# EAGLE library part MC34GD3000EP (library MC34GD3000EP-None-Symbol-Eagle-1)
3-Phase Brushless DC Motor Controller 6V to 58V 56-Pin QFN EP Brick
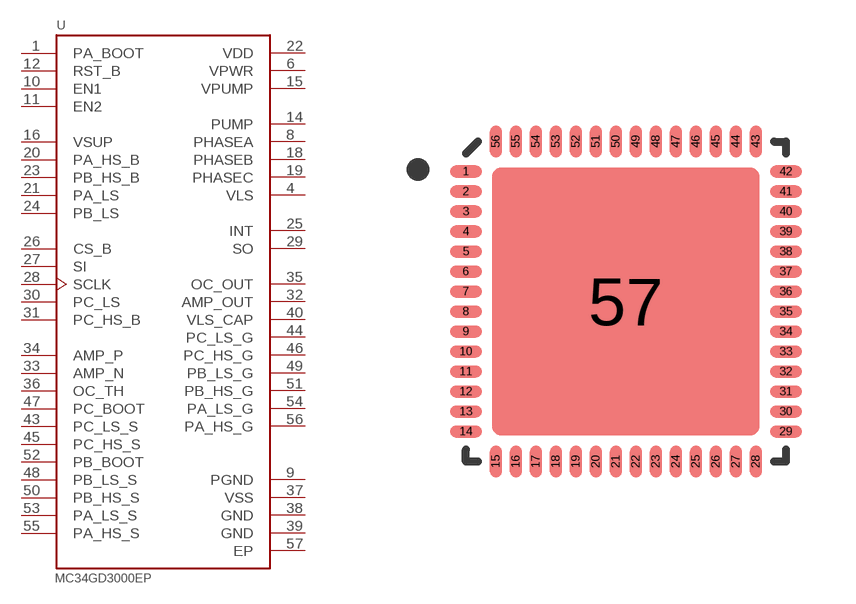
[diagram p0: symbol with the pads of QFN50P800X800X100-57N; footprint QFN50P800X800X100-57N]

Designator prefix U

## MC34GD3000EP (MANUFACTURER: NXP)  [QFN50P800X800X100-57N]
1  PA_BOOT  in
4  VLS  out
6  VPWR  pwr
8  PHASEA  out
9  PGND  pwr
10  EN1  in
11  EN2  in
12  RST_B  in
14  PUMP  out
15  VPUMP  pwr
16  VSUP  in
18  PHASEB  out
19  PHASEC  out
20  PA_HS_B  in
21  PA_LS  in
22  VDD
23  PB_HS_B  in
24  PB_LS  in
25  INT  out
26  CS_B  in
27  SI  in
28  SCLK  in
29  SO  out
30  PC_LS  in
31  PC_HS_B  in
32  AMP_OUT  out
33  AMP_N  in
34  AMP_P  in
35  OC_OUT  out
36  OC_TH  in
37  VSS  pwr
38  GND  pwr
39  GND  pwr
40  VLS_CAP  out
43  PC_LS_S  in
44  PC_LS_G  out
45  PC_HS_S  in
46  PC_HS_G  out
47  PC_BOOT  in
48  PB_LS_S  in
49  PB_LS_G  out
50  PB_HS_S  in
51  PB_HS_G  out
52  PB_BOOT  in
53  PA_LS_S  in
54  PA_LS_G  out
55  PA_HS_S  in
56  PA_HS_G  out
57  EP  pwr

## Footprint QFN50P800X800X100-57N (pad centres in mm)
smd 0.8 x 0.3: 1 -4,3.25; 2 -4,2.75; 3 -4,2.25; 4 -4,1.75; 5 -4,1.25; 6 -4,0.75; 7 -4,0.25; 8 -4,-0.25; 9 -4,-0.75; 10 -4,-1.25; 11 -4,-1.75; 12 -4,-2.25; 13 -4,-2.75; 14 -4,-3.25; 29 4,-3.25; 30 4,-2.75; 31 4,-2.25; 32 4,-1.75; 33 4,-1.25; 34 4,-0.75; 35 4,-0.25; 36 4,0.25; 37 4,0.75; 38 4,1.25; 39 4,1.75; 40 4,2.25; 41 4,2.75; 42 4,3.25
smd 0.3 x 0.8: 15 -3.25,-4; 16 -2.75,-4; 17 -2.25,-4; 18 -1.75,-4; 19 -1.25,-4; 20 -0.75,-4; 21 -0.25,-4; 22 0.25,-4; 23 0.75,-4; 24 1.25,-4; 25 1.75,-4; 26 2.25,-4; 27 2.75,-4; 28 3.25,-4; 43 3.25,4; 44 2.75,4; 45 2.25,4; 46 1.75,4; 47 1.25,4; 48 0.75,4; 49 0.25,4; 50 -0.25,4; 51 -0.75,4; 52 -1.25,4; 53 -1.75,4; 54 -2.25,4; 55 -2.75,4; 56 -3.25,4
smd 6.7 x 6.7: 57 0,0